# EAGLE library part LPC824M201JDH20 (library LPC824)
NXP 32 Bit Microcontroller, ARM Cortex-M0+ 20 Pins, TSSOP20 http://www.nxp.com/products/processors-and-microcontrollers/arm-microcontrollers/general-purpose-mcus/lpc800-cortex-m0-plus-/low-cost-microcontrollers-mcus-based-on-arm-cortex-m0-plus-cores:LPC82X Please note: Many functions can be switched to other pins via the switching matrix. Some however (such as XTALIN and XTALOUT) cannot. Consult datasheet! The LPC82x are an ARM Cortex-M0+ based, low-cost 32-bit MCU family operating at CPU frequencies of up to 30 MHz. The LPC82x support up to 32 KB of flash memory and 8 KB of SRAM. The peripheral complement of the LPC82x includes a CRC engine, four I2C-bus interfaces, up to three USARTs, up to two SPI interfaces, one multi-rate timer, self-wake-up timer, and state-configurable timer with PWM function (SCTimer/PWM), a DMA, one 12-bit ADC and one analog comparator, function-configurable I/O ports through a switch matrix, an input pattern match engine, and up to 29 general-purpose I/O pins.
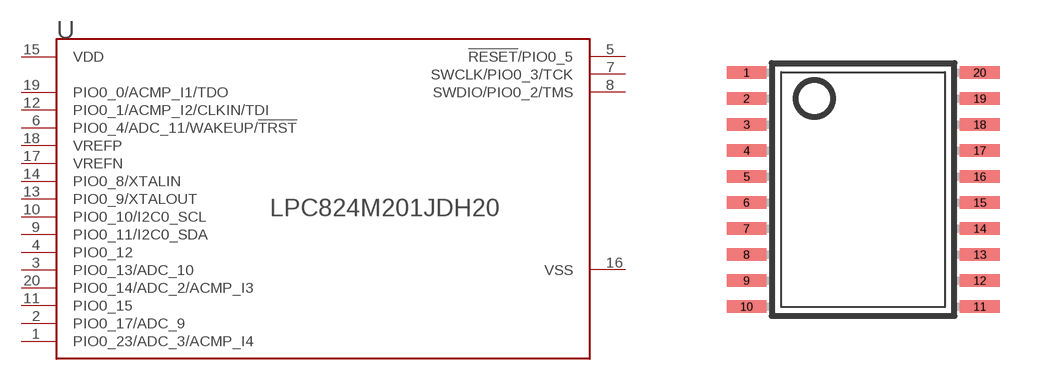
[diagram p0: symbol with the pads of TSSOP20; footprint TSSOP20]

Designator prefix U

## LPC824M201JDH20  [TSSOP20]
1  PIO0_23/ADC_3/ACMP_I4
2  PIO0_17/ADC_9
3  PIO0_13/ADC_10
4  PIO0_12
5  !RESET!/PIO0_5
6  PIO0_4/ADC_11/WAKEUP/!TRST!
7  SWCLK/PIO0_3/TCK
8  SWDIO/PIO0_2/TMS
9  PIO0_11/I2C0_SDA
10  PIO0_10/I2C0_SCL
11  PIO0_15
12  PIO0_1/ACMP_I2/CLKIN/TDI
13  PIO0_9/XTALOUT
14  PIO0_8/XTALIN
15  VDD
16  VSS
17  VREFN
18  VREFP
19  PIO0_0/ACMP_I1/TDO
20  PIO0_14/ADC_2/ACMP_I3

## Footprint TSSOP20 (pad centres in mm)
Thin Shrink Small Outline Plastic 20 TTSOP-20
smd 0.991 x 0.305: 1 -2.918,2.925; 2 -2.918,2.275; 3 -2.918,1.625; 4 -2.918,0.975; 5 -2.918,0.325; 6 -2.918,-0.325; 7 -2.918,-0.975; 8 -2.918,-1.625; 9 -2.918,-2.275; 10 -2.918,-2.925; 11 2.918,-2.925; 12 2.918,-2.275; 13 2.918,-1.625; 14 2.918,-0.975; 15 2.918,-0.325; 16 2.918,0.325; 17 2.918,0.975; 18 2.918,1.625; 19 2.918,2.275; 20 2.918,2.925